# EAGLE library part 8DIP_SWITCH (library misc)
4 position 8-pin DIP switch 8-pin DIP switch component page: http://www.digikey.com/product-detail/en/1825360-3/450-1781-ND/3283586 The 8pin DIP switch is surface mounted with the help of this adapter http://www.digikey.com/product-detail/en/214-99-308-01-670800/ED2128-ND/58679
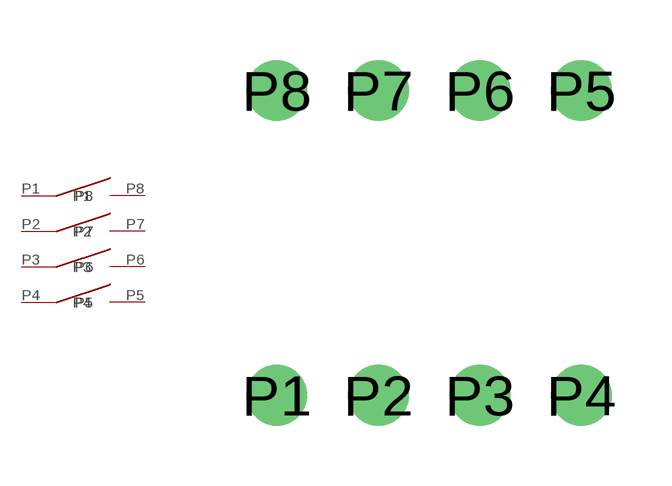
[diagram p0: symbol with the pads of 8DIP_SURF; footprint 8DIP_SURF]

Designator prefix -

## 8DIP_SWITCH  [8DIP_SURF]
P1  P1
P2  P2
P3  P3
P4  P4
P5  P5
P6  P6
P7  P7
P8  P8

## Footprint 8DIP_SURF (pad centres in mm)
component package link: http://www.digikey.com/product-detail/en/214-99-308-01-670800/ED2128-ND/58679 Top view: http://media.digikey.com/pdf/Catalog%20Drawings/ Connectors/SERIES%20214%20PINOUT.jpg Side view: http://media.digikey.com/pdf/Catalog%20Drawings/Connectors/SERIES%20214%20DIM-v1.jpg
drill 0.025 pad 1.524: P1 -3.81,-3.81; P2 -1.27,-3.81; P3 1.27,-3.81; P4 3.81,-3.81; P5 3.81,3.81; P6 1.27,3.81; P7 -1.27,3.81; P8 -3.81,3.81